# Altium footprint library soldeerstation.PcbLib: 38 footprints (part 1 of 3)
Each footprint in its own frame and in the unit in brackets; x right, y up, seen from the top. Pads: shape width x height; smd on the part's side, far side on the other; paste and mask are expansions set on the pad; w line width, h text height; cw(c..) or ccw(c..) is an arc to the next point about the centre after c.
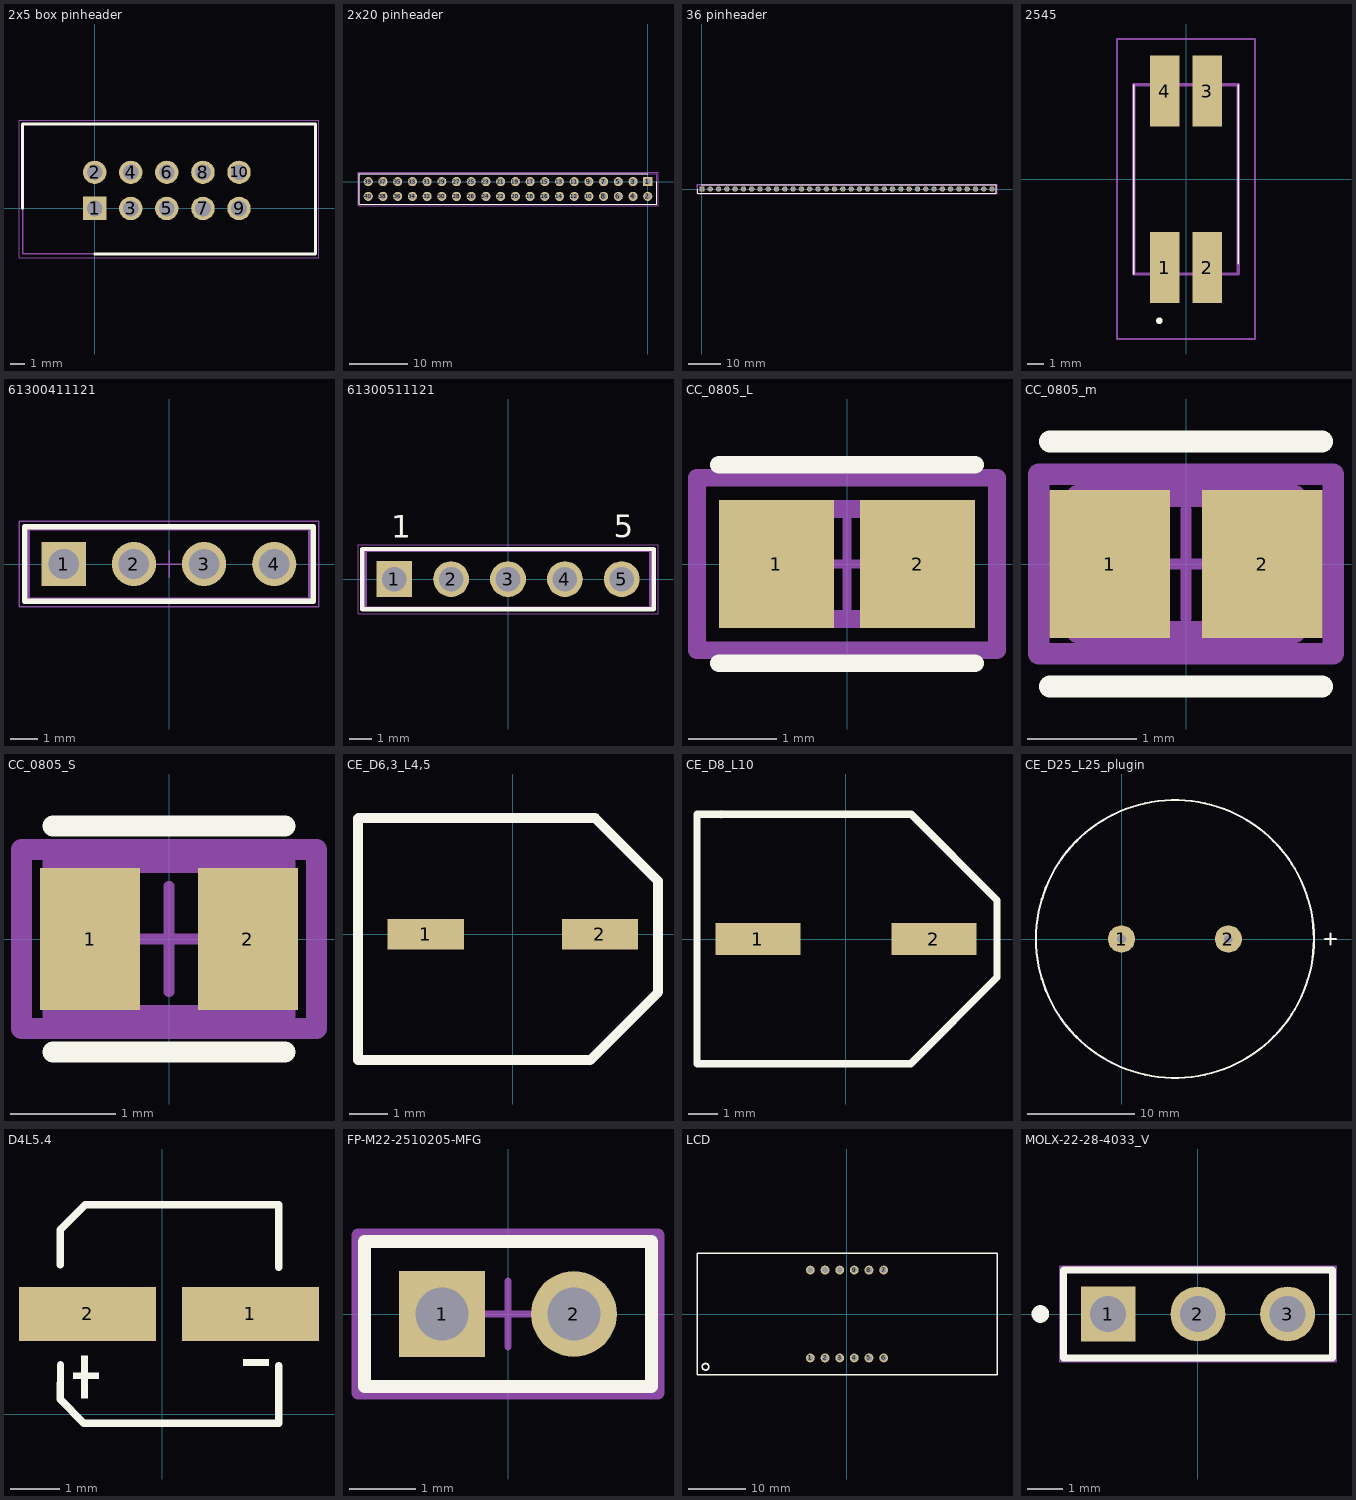
[diagram p0: the footprints below, top view; thin cyan lines are the x and y axes]

## 2x5 box pinheader [mm]
pads (10):
  rect 1.65x1.65 hole 1.1: 1(0,0)
  round 1.65 hole 1.1: 2(0,2.54) 3(2.54,0) 4(2.54,2.54) 5(5.08,0) 6(5.08,2.54) 7(7.62,0) 8(7.62,2.54) 9(10.16,0) 10(10.16,2.54)
Top Overlay:
  lines w0.2: -5.08,0 -5.08,5.945 15.54,5.945 15.54,-3.205 0,-3.205
Mechanical 13:
  lines w0.1: -5.08,-3.205 15.54,-3.205 15.54,5.945 -5.08,5.945 -5.08,-3.205
Mechanical 15:
  lines w0.05: -5.33,-3.455 15.79,-3.455 15.79,6.195 -5.33,6.195 -5.33,-3.455
3D body "T821110A1S100CEU.stp": height 9.15, standoff -3.55, extent -5.08,-3.205 15.24,5.745

## 2x20 pinheader [mm]
pads (40):
  rect 1.575x1.575 hole 1.05: 1(0,0)
  round 1.575 hole 1.05: 2(0,-2.54) 3(-2.54,0) 4(-2.54,-2.54) 5(-5.08,0) 6(-5.08,-2.54) 7(-7.62,0) 8(-7.62,-2.54) 9(-10.16,0) 10(-10.16,-2.54) 11(-12.7,0) 12(-12.7,-2.54) 13(-15.24,0) 14(-15.24,-2.54) 15(-17.78,0) 16(-17.78,-2.54) 17(-20.32,0) 18(-20.32,-2.54) 19(-22.86,0) 20(-22.86,-2.54) 21(-25.4,0) 22(-25.4,-2.54) 23(-27.94,0) 24(-27.94,-2.54) 25(-30.48,0) 26(-30.48,-2.54) 27(-33.02,0) 28(-33.02,-2.54) 29(-35.56,0) 30(-35.56,-2.54) 31(-38.1,0) 32(-38.1,-2.54) 33(-40.64,0) 34(-40.64,-2.54) 35(-43.18,0) 36(-43.18,-2.54) 37(-45.72,0) 38(-45.72,-2.54) 39(-48.26,0) 40(-48.26,-2.54)
Top Overlay:
  lines w0.2: 0,1.33 -49.78,1.33 -49.78,-3.87 1.52,-3.87 1.52,0
Mechanical 13:
  lines w0.1: -49.78,-3.87 1.52,-3.87 1.52,1.33 -49.78,1.33 -49.78,-3.87
Mechanical 15:
  lines w0.05: -50.03,-4.12 1.77,-4.12 1.77,1.58 -50.03,1.58 -50.03,-4.12
3D body "2-826632-0.stp": height 9.5, standoff -3.2, extent -49.53,-3.77 1.27,1.23

## 36 pinheader [mm]
pads (36):
  rect 1.65x1.65 hole 1.1: 1(0,0)
  round 1.65 hole 1.1: 2(2.54,0) 3(5.08,0) 4(7.62,0) 5(10.16,0) 6(12.7,0) 7(15.24,0) 8(17.78,0) 9(20.32,0) 10(22.86,0) 11(25.4,0) 12(27.94,0) 13(30.48,0) 14(33.02,0) 15(35.56,0) 16(38.1,0) 17(40.64,0) 18(43.18,0) 19(45.72,0) 20(48.26,0) 21(50.8,0) 22(53.34,0) 23(55.88,0) 24(58.42,0) 25(60.96,0) 26(63.5,0) 27(66.04,0) 28(68.58,0) 29(71.12,0) 30(73.66,0) 31(76.2,0) 32(78.74,0) 33(81.28,0) 34(83.82,0) 35(86.36,0) 36(88.9,0)
Top Overlay:
  lines w0.2: -1.27,0 -1.27,-1.27 90.17,-1.27 90.17,1.27 0,1.27
Mechanical 13:
  lines w0.1: -1.27,-1.27 90.17,-1.27 90.17,1.27 -1.27,1.27 -1.27,-1.27
Mechanical 15:
  lines w0.05: -1.52,-1.52 90.42,-1.52 90.42,1.52 -1.52,1.52 -1.52,-1.52
3D body "M20-9993645.stp": height 8.64, standoff -3, extent -1.27,-1.27 90.17,1.27

## 2545 [mm]
pads (4):
  rect 1.78x4.27 smd: 1(-1.27,-5.305) 2(1.27,-5.305) 3(1.27,5.305) 4(-1.27,5.305)
Top Overlay:
  lines w0.1: -3.15,-5.69 -3.15,5.69 ; 3.15,-5.08 3.15,5.69
  lines w0.2: -1.7,-8.5 cw(c-1.6,-8.5) -1.5,-8.5 cw(c-1.6,-8.5) -1.7,-8.5
Mechanical 13:
  lines w0.2: -3.15,-5.69 3.15,-5.69 3.15,5.69 -3.15,5.69 -3.15,-5.69
Mechanical 15:
  lines w0.1: -4.15,-9.6 4.15,-9.6 4.15,8.44 -4.15,8.44 -4.15,-9.6
3D body "CM2545X171R-10.stp": height 9.6, standoff 0, extent -3.15,-7.262 3.15,7.262

## 61300411121 [mm] "Pin Header, pitch 2.54 mm, THT, Vertical, single row, 4p"
height 8.54
pads (4):
  rect 1.6x1.6 hole 1.1: 1(-3.81,0)
  round 1.6 hole 1.1: 2(-1.27,0) 3(1.27,0) 4(3.81,0)
Top Overlay:
  lines w0.2: -5.23,-1.345 5.23,-1.345 5.23,1.345 -5.23,1.345 -5.23,-1.345
Mechanical 13:
  lines w0.1: -5.08,-1.27 -5.08,1.27 5.08,1.27 5.08,-1.27 -5.08,-1.27
Mechanical 15:
  lines w0.05: -0.5,0 0.5,0 ; 0,-0.5 0,0.5 ; -5.43,-1.545 -5.43,1.545 5.43,1.545 5.43,-1.545 -5.43,-1.545
3D body "61300411121.stp": height 8.57, standoff -2.97, extent -5.08,-1.27 5.08,1.27

## 61300511121 [mm] "Pin Header, pitch 2.54 mm, THT, Vertical, single row, 5p"
height 8.54
pads (5):
  rect 1.6x1.6 hole 1.1: 1(-5.08,0)
  round 1.6 hole 1.1: 2(-2.54,0) 3(0,0) 4(2.54,0) 5(5.08,0)
Top Overlay:
  lines w0.2: -6.5,-1.345 -6.5,1.345 6.5,1.345 6.5,-1.345 -6.5,-1.345
  text "5" at 4.724,1.88 h1.02
  text "1" at -5.207,1.854 h1.02
Mechanical 13:
  lines w0.1: -6.35,-1.27 6.35,-1.27 6.35,1.27 -6.35,1.27 -6.35,-1.27
Mechanical 15:
  lines w0.05: -0.5,0 0.5,0 ; 0,-0.5 0,0.5 ; -6.7,-1.545 6.7,-1.545 6.7,1.545 -6.7,1.545 -6.7,-1.545
3D body "61300511121.stp": height 8.57, standoff -2.97, extent -6.35,-1.27 6.35,1.27

## CC_0805_L [mm]
pads (2):
  rect 1.305x1.456 smd paste+0 mask+0: 1(-0.801,0) 2(0.801,0)
Top Overlay:
  lines w0.2: -1.453,-1.128 1.453,-1.128 ; -1.453,1.128 1.453,1.128
Top 3D Body:
  lines w0.2: -1,-0.625 1,-0.625 1,0.625 -1,0.625 -1,-0.625
Top Courtyard:
  lines w0.2: -1.703,-0.978 1.703,-0.978 1.703,0.978 -1.703,0.978 -1.703,-0.978
Top Assembly:
  lines w0.2: -1.703,-0.978 1.703,-0.978 1.703,0.978 -1.703,0.978 -1.703,-0.978
Top Component Center:
  lines w0.1: -0.5,0 0.5,0 ; 0,-0.5 0,0.5
3D body "Cap_KEMET_C0805C472J3HAC_eec.STEP": height 0.25, standoff 0, extent -1.703,-0.978 1.703,0.978

## CC_0805_m [mm]
pads (2):
  rect 1.105x1.356 smd paste+0 mask+0: 1(-0.701,0) 2(0.701,0)
Top Overlay:
  lines w0.2: -1.253,-1.125 1.253,-1.125 ; -1.253,1.125 1.253,1.125
Top 3D Body:
  lines w0.2: -1,-0.625 1,-0.625 1,0.625 -1,0.625 -1,-0.625
Top Courtyard:
  lines w0.2: -1.353,-0.825 1.353,-0.825 1.353,0.825 -1.353,0.825 -1.353,-0.825
Top Assembly:
  lines w0.2: -1.353,-0.825 1.353,-0.825 1.353,0.825 -1.353,0.825 -1.353,-0.825
Top Component Center:
  lines w0.1: -0.5,0 0.5,0 ; 0,-0.5 0,0.5
3D body "Cap_KEMET_C0805C472J3HAC_eec.STEP": height 0.25, standoff 0, extent -1.353,-0.825 1.353,0.825

## CC_0805_S [mm]
pads (2):
  rect 0.95x1.35 smd paste+0 mask+0: 1(-0.75,0) 2(0.75,0)
Top Overlay:
  lines w0.2: -1.1,-1.075 1.1,-1.075 ; -1.1,1.075 1.1,1.075
Top 3D Body:
  lines w0.2: -1.1,-0.725 1.1,-0.725 1.1,0.725 -1.1,0.725 -1.1,-0.725
Top Courtyard:
  lines w0.2: -1.4,-0.85 1.4,-0.85 1.4,0.85 -1.4,0.85 -1.4,-0.85
Top Assembly:
  lines w0.2: -1.4,-0.85 1.4,-0.85 1.4,0.85 -1.4,0.85 -1.4,-0.85
Top Component Center:
  lines w0.1: -0.5,0 0.5,0 ; 0,-0.5 0,0.5
3D body "Cap_KEMET_C0805C472J3HAC_eec.STEP": height 0.25, standoff 0, extent -1.4,-0.85 1.4,0.85

## CE_D6,3_L4,5 [mm]
pads (2):
  rect 2x0.8 smd: 1(-2.286,0) 2(2.286,0)
Top Overlay:
  lines w0.254: -4.064,-3.3 -4.064,-2.032 -4.064,0.51 -4.064,3.035 -4.051,3.048 -3.806,3.048 -0.252,3.048 2.159,3.048 3.81,1.397 3.81,-1.524 2.034,-3.3 -4.064,-3.3

## CE_D8_L10 [mm]
pads (2):
  rect 2.9x1.1 smd: 1(-3,0) 2(3,0)
Top Layer:
  lines w0.254: -4.259,4.25 -4.25,4.241
Top Overlay:
  lines w0.254: -5.08,-4.25 2.218,-4.25 5.156,-1.312 5.156,-0.207 5.156,1.321 2.227,4.25 -5.08,4.25 -5.08,-4.25

## CE_D25_L25_plugin [mm]
pads (2):
  round 2.54 hole 0.8: 1(0,0) 2(10,0)
Top Overlay:
  circle w0.2: c5,0 r13
  lines w0.2: 19.05,0 20.066,0 ; 19.558,-0.508 19.558,0.508

## D4L5.4 [mm]
pads (2):
  rect 2.8x1.1 smd: 1(1.8,2.048) 2(-1.521,2.048)
Top Overlay:
  region: -1.649,1.192 -1.649,0.332 -1.52,0.332 -1.52,1.192
  region: -1.811,0.852 -1.811,0.723 -1.295,0.723 -1.295,0.852
  region: 2.17,1.124 2.17,0.995 1.654,0.995 1.654,1.124
  lines w0.152: -2.077,3.048 -2.08,3.762 -1.567,4.273 2.375,4.273 2.375,2.997 ; -2.074,1.016 -2.082,0.304 -1.6,-0.178 2.375,-0.178 2.375,0.991
Mechanical 15:
  region: -1.679,2.478 -1.679,1.618 -1.55,1.618 -1.55,2.478
  region: -1.872,2.113 -1.872,1.984 -1.356,1.984 -1.356,2.113
  region: 2.17,2.113 2.17,1.984 1.654,1.984 1.654,2.113

## FP-M22-2510205-MFG [mm]
pads (2):
  rect 1.3x1.3 hole 0.8 paste-1000 mask+0: 1(-1,0)
  round 1.3 hole 0.8 paste-1000 mask+0: 2(1,0)
Top Overlay:
  lines w0.2: -2.175,-1.1 2.175,-1.1 2.175,1.1 -2.175,1.1 -2.175,-1.1
Top 3D Body:
  lines w0.2: -2.175,-1.1 2.175,-1.1 2.175,1.1 -2.175,1.1 -2.175,-1.1
Top Courtyard:
  lines w0.2: -2.275,-1.2 2.275,-1.2 2.275,1.2 -2.275,1.2 -2.275,-1.2
Top Assembly:
  lines w0.2: -2.275,-1.2 2.275,-1.2 2.275,1.2 -2.275,1.2 -2.275,-1.2
Top Component Center:
  lines w0.1: -0.5,0 0.5,0 ; 0,-0.5 0,0.5
3D body "Conn_Harwin_M22-2510205_eec.STEP": height 0.25, standoff 0, extent -2.275,-1.2 2.275,1.2

## LCD [mil]
pads (12):
  round 60 hole 39.37: 1(-250,-300) 2(-150,-300) 3(-50,-300) 4(50,-300) 5(150,-300) 6(250,-300) 7(250,300) 8(150,300) 9(50,300) 10(-50,300) 11(-150,300) 12(-250,300)
Top Overlay:
  circle w10: c-965,-360 r22.67
  lines w10: -1023.62,-413.39 1023.62,-413.39 1023.62,413.39 -1023.62,413.39 -1023.62,-413.39

## MOLX-22-28-4033_V [mm] "THD, 3-Leads, Body 7.62x2.49mm, Pitch 2.54mm"
height 8.38
pads (3):
  rect 1.55x1.55 hole 1.02: 1(-2.54,0)
  round 1.55 hole 1.02: 2(0,0) 3(2.54,0)
Top Overlay:
  circle w0.25: c-4.46,0 r0.125
  lines w0.2: -3.81,-1.245 -3.81,1.245 3.81,1.245 3.81,-1.245 -3.81,-1.245
Mechanical 13:
  lines w0.1: -3.81,-1.245 -3.81,1.245 3.81,1.245 3.81,-1.245 -3.81,-1.245
Mechanical 15:
  lines w0.05: -3.91,-1.345 3.91,-1.345 3.91,1.345 -3.91,1.345 -3.91,-1.345
  lines w0.1: -0.5,0 0.5,0 ; 0,-0.5 0,0.5
3D body "022284033.stp": height 8.38, standoff -3.18, extent -3.81,-1.245 3.81,1.245